# EAGLE library part BGA524N6E6327XTSA1 (library BGA524N6E6327XTSA1)
INFINEON - BGA524N6E6327XTSA1 - LNA, 19.6DB, 1.55GHZ-1.615GHZ, TSNP-6 Source: Datasheet <https://www.infineon.com/dgdl/Infineon-BGA524N6-DS-v03_00-en.pdf?fileId=db3a304344e406b50144e44dfad302b9>
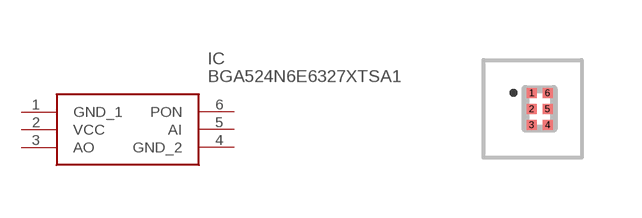
[diagram p0: symbol with the pads of BGS12SN6E6327XTSA1; footprint BGS12SN6E6327XTSA1]

Designator prefix IC

## BGA524N6E6327XTSA1 (Description: INFINEON - BGA524N6E6327XTSA1 - LNA, 19.6DB, 1.55GHZ-1.615GHZ, TSNP-6; Height: mm; Manufacturer_Name: Infineon; Manufacturer_Part_Number: BGA524N6E6327XTSA1; Mouser_Part_Number: 726-A524N6E6327XTSA1; Mouser_Price-Stock: https://www.mouser.co.uk/ProductDetail/Infineon-Technologies/BGA524N6E6327XTSA1?qs=dZoB6MK9LKODRML%252BhnhJcg%3D%3D)  [BGS12SN6E6327XTSA1]
1  GND_1
2  VCC
3  AO
4  GND_2
5  AI
6  PON

## Footprint BGS12SN6E6327XTSA1 (pad centres in mm)
TSNP-6-2
smd 0.25 x 0.25: 1 -0.025,0.4; 2 -0.025,0; 3 -0.025,-0.4; 4 0.375,-0.4; 5 0.375,0; 6 0.375,0.4